# Altium integrated library Oscillator_GOST.IntLib: 1 symbol
Pins are listed as number, name and electrical type; pins without a type are passive.

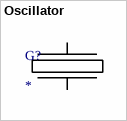
[diagram p0: symbol Oscillator]

## Oscillator
designator G?
Desc: Осциллятор кварцевый; PartNumber: *; Frequence: *; ComponentLink1Description: Source; ComponentLink1URL: *; ComponentLink2Description: Datasheet; ComponentLink2URL: *; Ta: *; Tolerance: *; Package: *
footprint ABS25-32.768KHZ-6-T
footprint HC49SMD
pins: 1, 2